# Altium schematic symbol library TUSB542.SchLib: 1 symbol
Pins are listed as number, name and electrical type; pins without a type are passive.

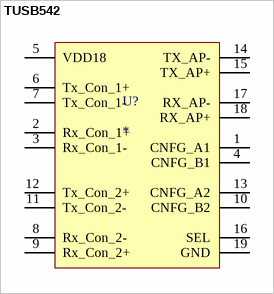
[diagram p0: symbol TUSB542]

## TUSB542
designator U?
pins: 1 CNFG_A1, 2 Rx_Con_1+, 3 Rx_Con_1-, 4 CNFG_B1, 5 VDD18, 6 Tx_Con_1+, 7 Tx_Con_1-, 8 Rx_Con_2-, 9 Rx_Con_2+, 10 CNFG_B2, 11 Tx_Con_2-, 12 Tx_Con_2+, 13 CNFG_A2, 14 TX_AP-, 15 TX_AP+, 16 SEL, 17 RX_AP-, 18 RX_AP+, 19 GND